# EAGLE library part 74HC4046AN (library MSA_lib)
High-Speed CMOS Logic Phase-Locked Loop with VCO NXP
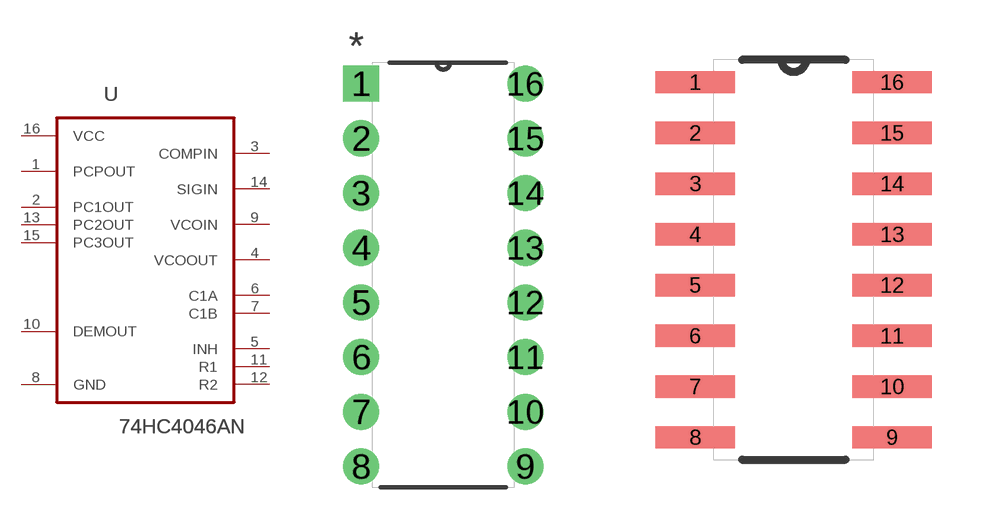
[diagram p32: symbol with the pads of DIP254P762X508-16; footprints DIP254P762X508-16, SOIC16]

Designator prefix U

## 74HC4046AN (OC_FARNELL: 380891)  [DIP254P762X508-16]
1  PCPOUT  out
2  PC1OUT  out
3  COMPIN  in
4  VCOOUT  out
5  INH  in
6  C1A  in
7  C1B  in
8  GND  pas
9  VCOIN  in
10  DEMOUT  out
11  R1  in
12  R2  in
13  PC2OUT  out
14  SIGIN  in
15  PC3OUT  out
16  VCC  pwr

## 74HC4046ANSOIC16 (OC_FARNELL: 1085322)  [SOIC16]
Pads as for DIP254P762X508-16

## Footprint DIP254P762X508-16 (pad centres in mm)
drill 1.118 square: 1 -7.62,17.78
drill 1.118: 2 -7.62,15.24; 3 -7.62,12.7; 4 -7.62,10.16; 5 -7.62,7.62; 6 -7.62,5.08; 7 -7.62,2.54; 8 -7.62,0; 9 0,0; 10 0,2.54; 11 0,5.08; 12 0,7.62; 13 0,10.16; 14 0,12.7; 15 0,15.24; 16 0,17.78

## Footprint SOIC16 (pad centres in mm)
smd 1.981 x 0.559: 1 -2.464,4.445; 2 -2.464,3.175; 3 -2.464,1.905; 4 -2.464,0.635; 5 -2.464,-0.635; 6 -2.464,-1.905; 7 -2.464,-3.175; 8 -2.464,-4.445; 9 2.464,-4.445; 10 2.464,-3.175; 11 2.464,-1.905; 12 2.464,-0.635; 13 2.464,0.635; 14 2.464,1.905; 15 2.464,3.175; 16 2.464,4.445